# EAGLE library part 535512-10 (library con-tyco-modu)
RECEPTACAL
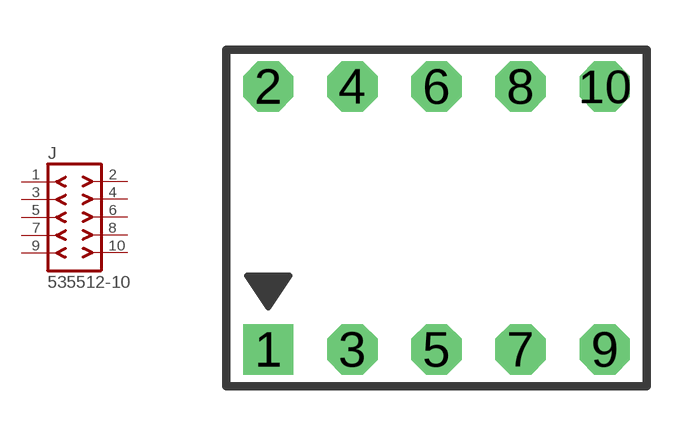
[diagram p15: symbol with the pads of 535512-10; footprint 535512-10]

Designator prefix J

## 535512-10  [535512-10]
1  1  pas
2  2  pas
3  3  pas
4  4  pas
5  5  pas
6  6  pas
7  7  pas
8  8  pas
9  9  pas
10  10  pas

## Footprint 535512-10 (pad centres in mm)
AMPMODU - 535512 Series
drill 1.016 square: 1 -5.08,0
drill 1.016 octagon: 2 -5.08,7.938; 3 -2.54,0; 4 -2.54,7.938; 5 0,0; 6 0,7.938; 7 2.54,0; 8 2.54,7.938; 9 5.08,0; 10 5.08,7.938